# EAGLE library part AFC11-S20ICC-00 (library ds_con)
Drawer Type 20P Single-sided contact points/Vertical Standing paste 0.5mm SMD,P=0.5mm FFC, FPC (Flat Flexible) Connector Assemblies ROHS
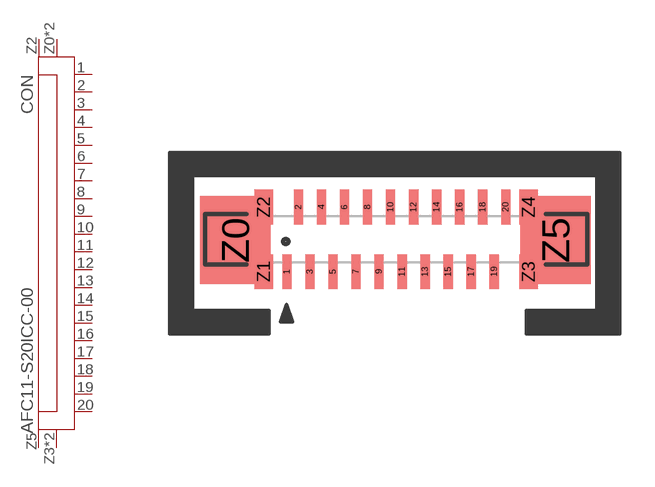
[diagram p41: symbol with the pads of FPC20; footprint FPC20]

Designator prefix CON

## AFC11-S20ICC-00 (DESCRIPTION: Drawer Type 20P Single-sided contact points/Vertical Standing paste 0.5mm SMD,P=0.5mm FFC, FPC (Flat Flexible) Connector Assemblies ROHS; HQ_PART: CO0889517; LCSC_PART: C466537; MANUFACTURER: JS; MPN: AFC11-S20ICA-00; ROHS: YES; VALUE: AFC11-S20ICC-00)  [FPC20]
1  1
2  2
3  3
4  4
5  5
6  6
7  7
8  8
9  9
10  10
11  11
12  12
13  13
14  14
15  15
16  16
17  17
18  18
19  19
20  20
Z0  Z1
Z1  Z1
Z2  Z2
Z3  Z3
Z4  Z3
Z5  Z4

## Footprint FPC20 (pad centres in mm)
smd 0.4 x 1.5: 1 -4.552,-1.362; 2 -4.052,1.438; 3 -3.552,-1.362; 4 -3.052,1.438; 5 -2.552,-1.362; 6 -2.052,1.438; 7 -1.552,-1.362; 8 -1.052,1.438; 9 -0.552,-1.362; 10 -0.052,1.438; 11 0.448,-1.362; 12 0.948,1.438; 13 1.448,-1.362; 14 1.948,1.438; 15 2.448,-1.362; 16 2.948,1.438; 17 3.448,-1.362; 18 3.948,1.438; 19 4.448,-1.362; 20 4.948,1.438
smd 3.048 x 3.81: Z0 -6.795,0; Z5 7.112,0
smd 0.8 x 1.5: Z1 -5.552,-1.362; Z2 -5.552,1.438; Z3 5.948,-1.362; Z4 5.948,1.438